# EAGLE library part PINHD-2X5 (library usb_bdm)
PIN HEADER
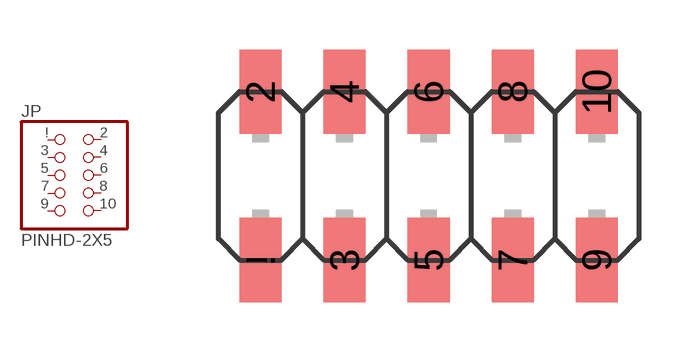
[diagram p1: symbol with the pads of 2X05; footprint 2X05]

Designator prefix JP

## PINHD-2X5  [2X05]
2  2  pas
3  3  pas
4  4  pas
5  5  pas
6  6  pas
7  7  pas
8  8  pas
9  9  pas
10  10  pas
!  1  pas

## Footprint 2X05 (pad centres in mm)
PIN HEADER
smd 1.27 x 2.54: 2 -5.08,2.54; 3 -2.54,-2.54; 4 -2.54,2.54; 5 0,-2.54; 6 0,2.54; 7 2.54,-2.54; 8 2.54,2.54; 9 5.08,-2.54; 10 5.08,2.54; ! -5.08,-2.54